# EAGLE library part MCP2515 (library balto)
MCP2515 Stand-Alone CAN Controller With SPI Interface
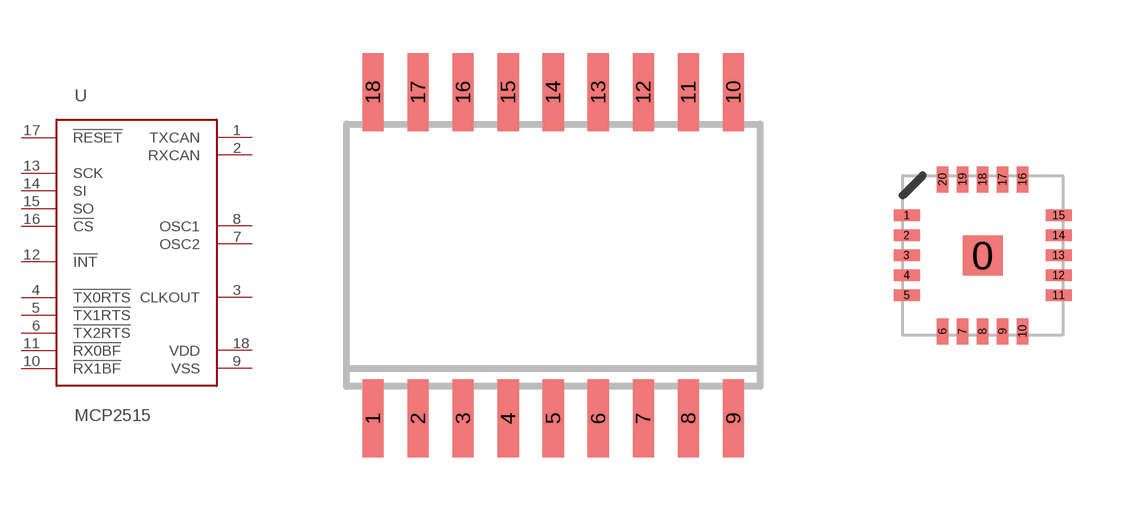
[diagram p7: symbol with the pads of SO-18DW; footprints SO-18DW, QFN20]

Designator prefix U

## MCP2515-I/P  [SO-18DW]
1  TXCAN
2  RXCAN
3  CLKOUT
4  !TX0RTS
5  !TX1RTS
6  !TX2RTS
7  OSC2
8  OSC1
9  VSS  pwr
10  !RX1BF
11  !RX0BF
12  !INT
13  SCK
14  SI
15  SO
16  !CS
17  !RESET
18  VDD  pwr

## MCP2515-E/ML  [QFN20]
0  VSS  pwr
1  CLKOUT
2  !TX0RTS
3  !TX1RTS
5  !TX2RTS
6  OSC2
7  OSC1
8  VSS  pwr
9  !RX1BF
10  !RX0BF
11  !INT
12  SCK
14  SI
15  SO
16  !CS
17  !RESET
18  VDD  pwr
19  TXCAN
20  RXCAN

## MCP2515-IST  [TSSOP20]
1  TXCAN
2  RXCAN
3  CLKOUT
4  !TX0RTS
5  !TX1RTS
7  !TX2RTS
8  OSC2
9  OSC1
10  VSS  pwr
11  !RX1BF
12  !RX0BF
13  !INT
14  SCK
16  SI
17  SO
18  !CS
19  !RESET
20  VDD  pwr

## Footprint SO-18DW (pad centres in mm)
Small Outline Integrated Circuit wide
smd 0.6 x 2.2: 1 -5.08,-4.6; 2 -3.81,-4.6; 3 -2.54,-4.6; 4 -1.27,-4.6; 5 0,-4.6; 6 1.27,-4.6; 7 2.54,-4.6; 8 3.81,-4.6; 9 5.08,-4.6; 10 5.08,4.6; 11 3.81,4.6; 12 2.54,4.6; 13 1.27,4.6; 14 0,4.6; 15 -1.27,4.6; 16 -2.54,4.6; 17 -3.81,4.6; 18 -5.08,4.6

## Footprint QFN20 (pad centres in mm)
smd 1 x 1: 0 0,0
smd 0.65 x 0.29: 1 -1.9,1; 2 -1.9,0.5; 3 -1.9,0; 4 -1.9,-0.5; 5 -1.9,-1; 11 1.9,-1; 12 1.9,-0.5; 13 1.9,0; 14 1.9,0.5; 15 1.9,1
smd 0.29 x 0.65: 6 -1,-1.9; 7 -0.5,-1.9; 8 0,-1.9; 9 0.5,-1.9; 10 1,-1.9; 16 1,1.9; 17 0.5,1.9; 18 0,1.9; 19 -0.5,1.9; 20 -1,1.9

## Footprint TSSOP20 (pad centres in mm)
Thin Shrink Small Outline Plastic 20 MAX3223-MAX3243.pdf
smd 0.305 x 0.991: 1 -2.925,-2.918; 2 -2.275,-2.918; 3 -1.625,-2.918; 4 -0.975,-2.918; 5 -0.325,-2.918; 6 0.325,-2.918; 7 0.975,-2.918; 8 1.625,-2.918; 9 2.275,-2.918; 10 2.925,-2.918; 11 2.925,2.918; 12 2.275,2.918; 13 1.625,2.918; 14 0.975,2.918; 15 0.325,2.918; 16 -0.325,2.918; 17 -0.975,2.918; 18 -1.625,2.918; 19 -2.275,2.918; 20 -2.925,2.918